# Altium footprint library Oxy_Lib.PcbLib: 19 footprints (part 1 of 2)
Each footprint in its own frame and in the unit in brackets; x right, y up, seen from the top. Pads: shape width x height; smd on the part's side, far side on the other; paste and mask are expansions set on the pad; w line width, h text height; cw(c..) or ccw(c..) is an arc to the next point about the centre after c.
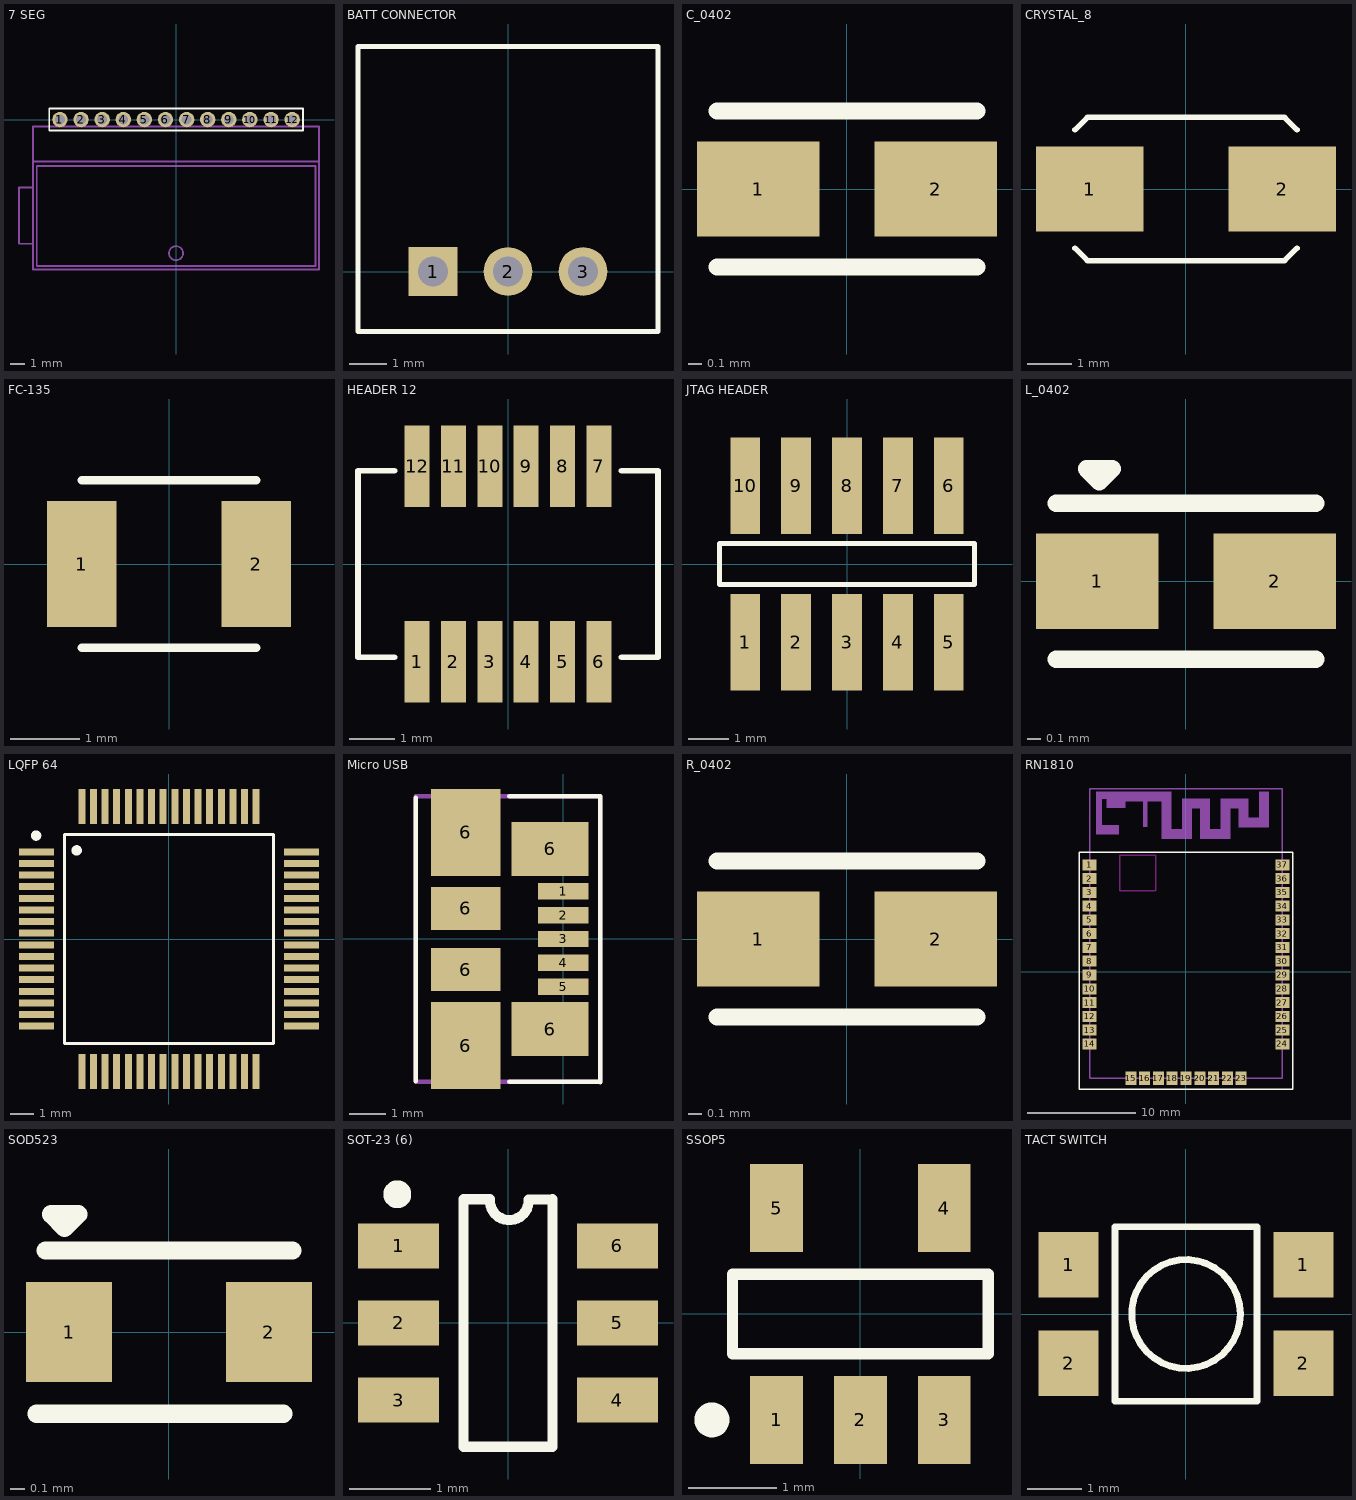
[diagram p0: the footprints below, top view; thin cyan lines are the x and y axes]

## 7 SEG [mm]
pads (12):
  round 1.1 hole 0.7: 1(-8.25,0) 2(-6.75,0) 3(-5.25,0) 4(-3.75,0) 5(-2.25,0) 6(-0.75,0) 7(0.75,0) 8(2.25,0) 9(3.75,0) 10(5.25,0) 11(6.75,0) 12(8.25,0)
Top Overlay:
  lines w0.127: -9.017,-0.787 9.017,-0.787 9.017,0.787 -9.017,0.787 -9.017,-0.787
Mechanical 15:
  circle w0.127: c0,-9.5 r0.5
  lines w0.127: -10.166,-8.82 -11.16,-8.82 -11.16,-4.82 -10.166,-4.82 ; -10.16,-2.98 10.16,-2.98 ; -10.16,-10.66 10.16,-10.66 10.16,-0.5 -10.16,-0.5 -10.16,-10.66 ; -9.906,-10.414 9.906,-10.414 9.906,-3.302 -9.906,-3.302 -9.906,-10.414

## BATT CONNECTOR [mm]
pads (3):
  rect 1.3x1.3 hole 0.8: 1(-2,0)
  round 1.3 hole 0.8: 2(0,0) 3(2,0)
Top Overlay:
  lines w0.127: -4,-1.6 -4,6 4,6 4,-1.6 -4,-1.6

## C_0402 [mm] "Ceramic Capacitor SMD 0402"
pads (2):
  rect 0.9x0.7 smd mask+0.07: 1(-0.65,0) 2(0.65,0)
Top Overlay:
  lines w0.127: -0.953,-0.572 0.953,-0.572 ; -0.953,0.572 0.953,0.572
3D body "User Library-Capacitor 0402.step": height 0.5, standoff 0, extent -0.5,-0.25 0.5,0.25

## CRYSTAL_8 [mm]
pads (2):
  rect 2.4x1.9 smd: 1(-2.15,0) 2(2.15,0)
Top Overlay:
  lines w0.127: -2.479,-1.321 -2.2,-1.6 2.2,-1.6 2.479,-1.321 ; -2.479,1.321 -2.2,1.6 2.2,1.6 2.479,1.321
3D body "User Library-ABM3.STEP": height 1.3, standoff 0, extent -2.6,-1.7 2.6,1.7

## FC-135 [mm]
pads (2):
  rect 1x1.8 smd: 1(-1.25,0) 2(1.25,0)
Top Overlay:
  lines w0.127: -1.25,-1.2 1.25,-1.2 ; -1.25,1.2 1.25,1.2
3D body "ABS07L.step": height 0.38, standoff 0, extent -1.6,-0.75 1.6,0.75

## HEADER 12 [mm]
pads (12):
  rect 0.55x1.8 smd mask+0.07: 1(-2,-2.15) 2(-1.2,-2.15) 3(-0.4,-2.15) 4(0.4,-2.15) 5(1.2,-2.15) 6(2,-2.15) 7(2,2.15) 8(1.2,2.15) 9(0.4,2.15) 10(-0.4,2.15) 11(-1.2,2.15) 12(-2,2.15)
Top Overlay:
  lines w0.127: -2.5,-2.05 -3.3,-2.05 -3.3,2.05 -2.5,2.05 ; 2.5,-2.05 3.3,-2.05 3.3,2.05 2.5,2.05
3D body "Pinera PCB2.stp": height 3.7, standoff 0.05, extent -3.3,-2.55 3.3,2.55

## JTAG HEADER [mm]
pads (10):
  rect 0.74x2.4 smd mask+0.07: 1(-2.54,-1.95) 2(-1.27,-1.95) 3(0,-1.95) 4(1.27,-1.95) 5(2.54,-1.95) 6(2.54,1.95) 7(1.27,1.95) 8(0,1.95) 9(-1.27,1.95) 10(-2.54,1.95)
Top Overlay:
  lines w0.127: -3.175,-0.508 3.175,-0.508 3.175,0.508 -3.175,0.508 -3.175,-0.508
3D body "JTAG Header.stp": height 4.7, standoff 0.02, extent -3.175,-2.775 3.175,2.725

## L_0402 [mm]
pads (2):
  rect 0.9x0.7 smd mask+0.07: 1(-0.65,0) 2(0.65,0)
Top Overlay:
  lines w0.127: -0.953,-0.572 0.953,-0.572 ; -0.953,0.572 0.953,0.572 ; -0.73,0.826 -0.635,0.73 -0.54,0.826 -0.73,0.826
3D body "User Library-LED_1006_B.STEP": height 0.2, standoff 0, extent -0.5,-0.3 0.5,0.3

## LQFP 64 [mm]
pads (64):
  rect 1.5x0.3 smd mask+0.07: 1(-5.7,3.75) 2(-5.7,3.25) 3(-5.7,2.75) 4(-5.7,2.25) 5(-5.7,1.75) 6(-5.7,1.25) 7(-5.7,0.75) 8(-5.7,0.25) 9(-5.7,-0.25) 10(-5.7,-0.75) 11(-5.7,-1.25) 12(-5.7,-1.75) 13(-5.7,-2.25) 14(-5.7,-2.75) 15(-5.7,-3.25) 16(-5.7,-3.75) 33(5.7,-3.75) 34(5.7,-3.25) 35(5.7,-2.75) 36(5.7,-2.25) 37(5.7,-1.75) 38(5.7,-1.25) 39(5.7,-0.75) 40(5.7,-0.25) 41(5.7,0.25) 42(5.7,0.75) 43(5.7,1.25) 44(5.7,1.75) 45(5.7,2.25) 46(5.7,2.75) 47(5.7,3.25) 48(5.7,3.75)
  rect 0.3x1.5 smd mask+0.07: 17(-3.75,-5.7) 18(-3.25,-5.7) 19(-2.75,-5.7) 20(-2.25,-5.7) 21(-1.75,-5.7) 22(-1.25,-5.7) 23(-0.75,-5.7) 24(-0.25,-5.7) 25(0.25,-5.7) 26(0.75,-5.7) 27(1.25,-5.7) 28(1.75,-5.7) 29(2.25,-5.7) 30(2.75,-5.7) 31(3.25,-5.7) 32(3.75,-5.7) 49(3.75,5.7) 50(3.25,5.7) 51(2.75,5.7) 52(2.25,5.7) 53(1.75,5.7) 54(1.25,5.7) 55(0.75,5.7) 56(0.25,5.7) 57(-0.25,5.7) 58(-0.75,5.7) 59(-1.25,5.7) 60(-1.75,5.7) 61(-2.25,5.7) 62(-2.75,5.7) 63(-3.25,5.7) 64(-3.75,5.7)
Top Overlay:
  circle w0.254: c-3.969,3.81 r0.095
  circle w0.254: c-5.715,4.445 r0.095
  lines w0.127: -4.5,-4.5 -4.5,4.5 4.5,4.5 4.5,-4.5 -4.5,-4.5
3D body "User Library-LQFP64_Grid_0_5.STEP": height 1.6, standoff 0, extent -6,-6 6,6

## Micro USB [mm]
pads (11):
  rect 1.38x0.45 smd mask+0.07: 1(0,1.3) 2(0,0.65) 3(0,0) 4(0,-0.65) 5(0,-1.3)
  rect 1.9x2.375 smd mask+0.07: 6(-2.66,-2.913) 6(-2.66,2.913)
  rect 1.9x1.175 smd mask+0.07: 6(-2.66,-0.837) 6(-2.66,0.837)
  rect 2.1x1.475 smd mask+0.07: 6(-0.356,-2.462) 6(-0.356,2.462)
Top Overlay:
  lines w0.127: -4.027,-3.886 -4.027,3.861 ; -1.473,-3.9 1.016,-3.9 ; -1.473,3.9 1.016,3.9 1.016,-3.912
Mechanical 15:
  lines w0.127: -4.027,-3.9 1.016,-3.9 1.016,3.9 -4.027,3.9 -4.027,-3.9
3D body "Micro USB.stp": height 2.66, standoff -0.05, extent -4.001,-3.9 0.999,3.9

## R_0402 [mm] "Resistor SMD 0402"
pads (2):
  rect 0.9x0.7 smd mask+0.07: 1(-0.65,0) 2(0.65,0)
Top Overlay:
  lines w0.127: -0.953,-0.572 0.953,-0.572 ; -0.953,0.572 0.953,0.572
3D body "User Library-0402R.step": height 0.34, standoff 0, extent -0.52,-0.3 0.52,0.3

## RN1810 [mil]
pads (37):
  rect 50x40 smd mask+2.76: 1(-350,387.5) 2(-350,337.5) 3(-350,287.5) 4(-350,237.5) 5(-350,187.5) 6(-350,137.5) 7(-350,87.5) 8(-350,37.5) 9(-350,-12.5) 10(-350,-62.5) 11(-350,-112.5) 12(-350,-162.5) 13(-350,-212.5) 14(-350,-262.5) 24(350,-262.5) 25(350,-212.5) 26(350,-162.5) 27(350,-112.5) 28(350,-62.5) 29(350,-12.5) 30(350,37.5) 31(350,87.5) 32(350,137.5) 33(350,187.5) 34(350,237.5) 35(350,287.5) 36(350,337.5) 37(350,387.5)
  rect 40x50 smd mask+2.76: 15(-200,-387.5) 16(-150,-387.5) 17(-100,-387.5) 18(-50,-387.5) 19(0,-387.5) 20(50,-387.5) 21(100,-387.5) 22(150,-387.5) 23(200,-387.5)
Top Overlay:
  lines w5: -387.5,-426.25 -387.5,433.75 387.5,433.75 387.5,-426.25 -387.5,-426.25
Keep-Out Layer:
  lines w5: -112.5,292.5 -240,292.5 -240,422.5 -110,422.5 -110,292.5
Mechanical 15:
  region: -287.5,652.5 -221.25,652.5 -221.25,593.75 -287.5,593.75
  region: -262.5,652.5 -262.5,626.88 -263.12,626.25 -326.25,626.25 -326.25,652.5
  region: -326.25,626.25 -306.25,626.25 -306.25,498.75 -326.25,498.75
  region: -306.25,531.25 -243.75,531.25 -243.75,498.75 -306.25,498.75
  region: -155,617.5 -140,617.5 -140,525 -155,525
  region: -53.75,617.5 -53.75,652.5 -221.25,652.5 -221.25,617.5
  region: -88.75,617.5 -53.75,617.5 -53.75,481.25 -88.75,481.25
  region: -53.75,516.25 21.25,516.25 21.25,481.25 -53.75,481.25
  region: 21.25,516.25 21.25,627.5 -13.75,627.5 -13.75,516.25
  region: 21.25,592.5 21.25,627.5 86.25,627.5 86.25,592.5
  region: 86.25,592.5 86.25,481.25 50,481.25 51.25,482.5 51.25,592.5
  region: 86.25,516.25 161.25,516.25 161.25,481.25 86.25,481.25
  region: 161.25,516.25 161.25,627.5 126.25,627.5 126.25,516.25
  region: 161.25,592.5 161.25,627.5 226.25,627.5 226.25,592.5
  region: 226.25,592.5 226.25,523.75 191.25,523.75 191.25,525 191.25,526.25 191.25,592.5
  region: 226.25,558.59 226.25,523.75 300,523.75 300,558.59
  region: 300,558.59 300,652.5 265,652.5 265,558.75
  lines w5: -350,-387.5 -350,662.5 350,662.5 350,-387.5 -350,-387.5

## SOD523 [mm]
pads (2):
  rect 0.6x0.7 smd mask+0.07: 1(-0.7,0) 2(0.7,0)
Top Overlay:
  lines w0.127: -0.927,-0.572 0.8,-0.572 ; -0.864,0.572 0.864,0.572 ; -0.826,0.826 -0.73,0.73 -0.635,0.826 -0.826,0.826
3D body "User Library-SOD523-1.step": height 0.7, standoff 0, extent -0.8,-0.399 0.8,0.399

## SOT-23 (6) [mm]
pads (6):
  rect 1x0.55 smd mask+0.07: 1(-1.35,0.95) 2(-1.35,0) 3(-1.35,-0.95) 4(1.35,-0.95) 5(1.35,0) 6(1.35,0.95)
Top Overlay:
  circle w0.254: c-1.365,1.587 r0.045
  lines w0.127: 0.549,1.524 0.254,1.524 cw(c0.016,1.508) -0.222,1.525 -0.55,1.525 -0.55,-1.525 0.55,-1.525 0.55,1.525
3D body "User Library-SOT-23-6-1.STEP": height 1.5, standoff 0.04, extent -1.5,-1.5 1.5,1.5

## SSOP5 [mm]
pads (5):
  rect 0.6x1 smd mask+0.08: 1(-0.95,-1.2) 2(0,-1.2) 3(0.95,-1.2) 4(0.95,1.2) 5(-0.95,1.2)
Top Overlay:
  circle w0.254: c-1.683,-1.2 r0.071
  lines w0.127: -1.45,-0.45 -1.45,0.45 1.45,0.45 1.45,-0.45 -1.45,-0.45
3D body "SSOP5.stp": height 1.12, standoff 0, extent -1.45,-1.4 1.45,1.4

## TACT SWITCH [mm]
pads (4):
  rect 1.1x1.2 smd: 1(-2.15,0.9) 1(2.15,0.9) 2(-2.15,-0.9) 2(2.15,-0.9)
Top Overlay:
  circle w0.127: c0,0 r0.997
  lines w0.127: -1.3,-1.6 1.3,-1.6 1.3,1.6 -1.3,1.6 -1.3,-1.6